# Altium schematic symbol library Microchip PIC12.SchLib: 457 symbols (part 2 of 15)
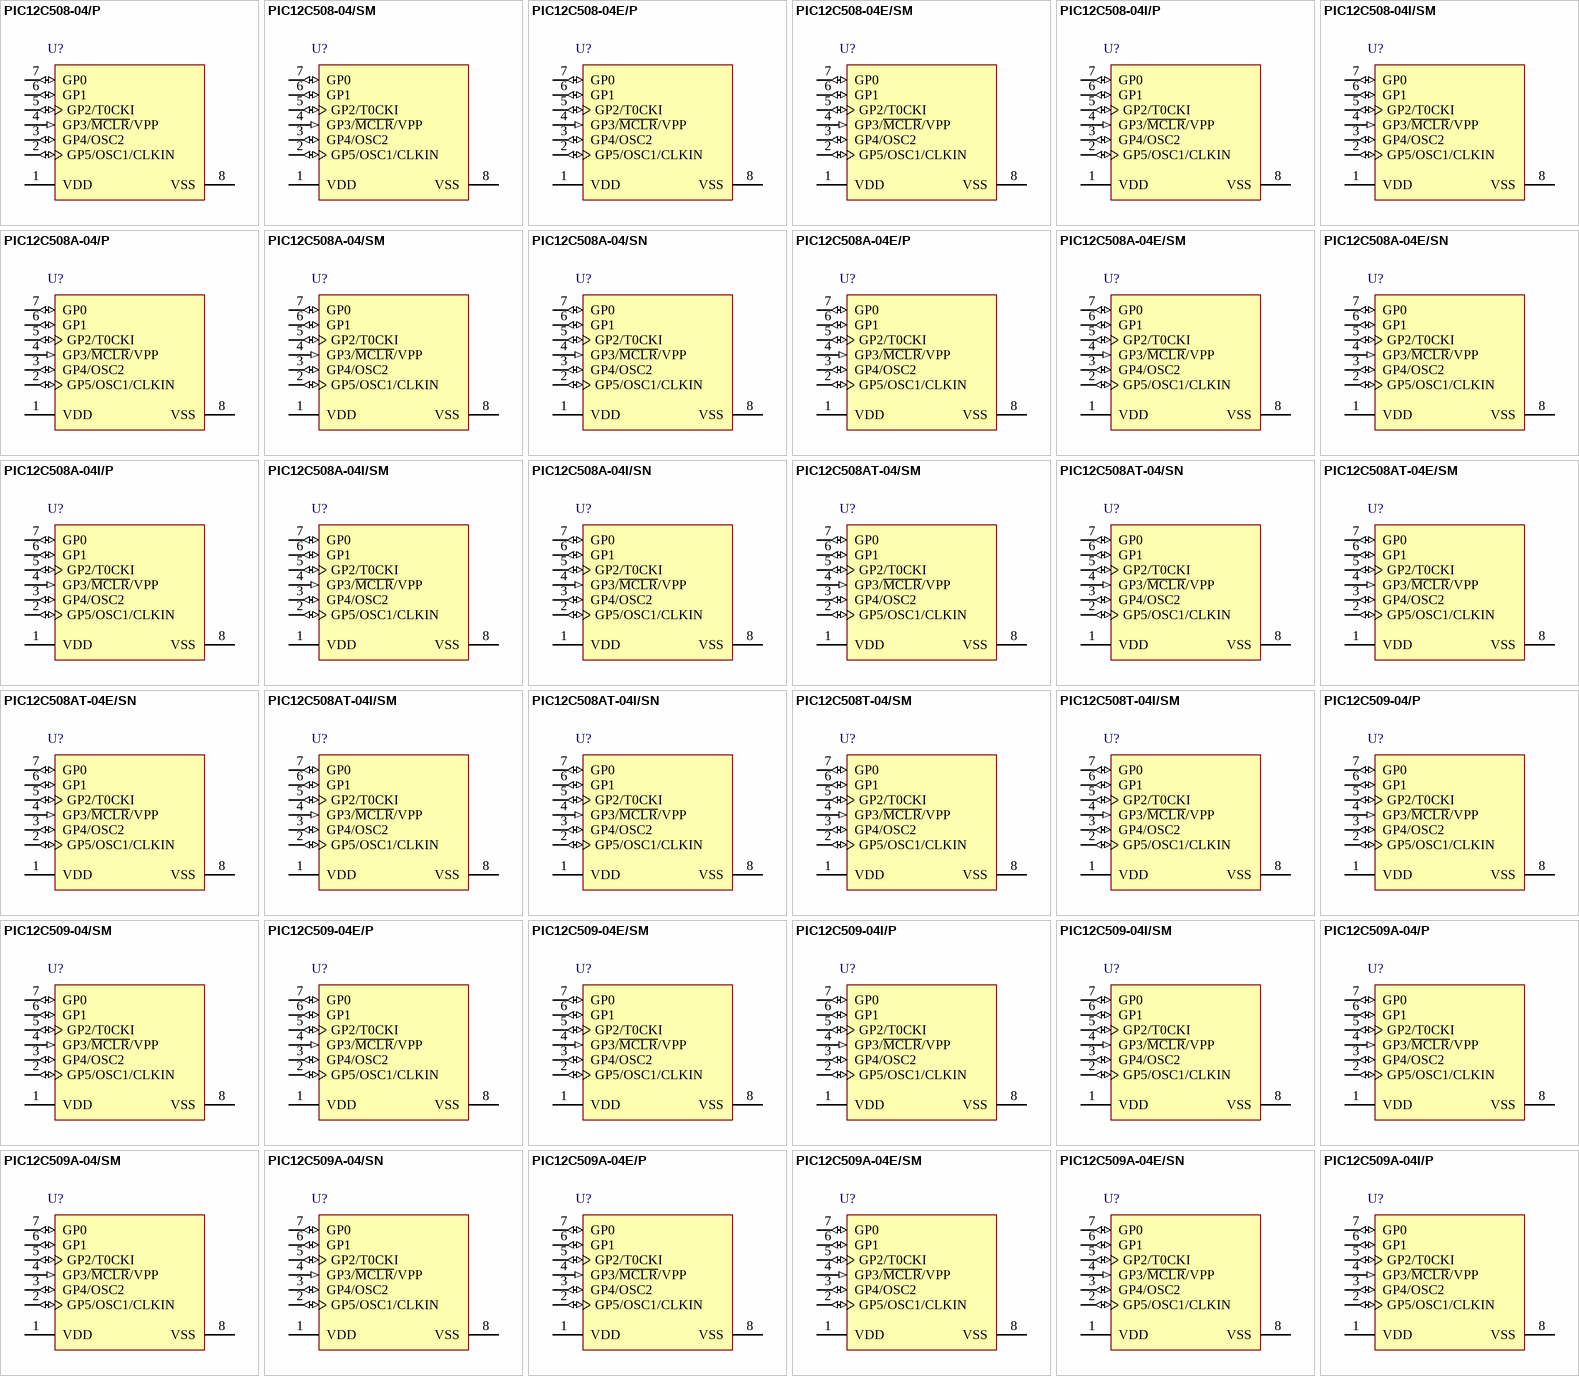
[diagram p16: symbols PIC12C508-04/P to PIC12C509A-04I/P]

## PIC12C509-04/P
designator U?
8-Bit CMOS Microcontroller, 4 MHz, 5 I/O, 0 to 70 degC, 8-pin PDIP (P8), Tube; Manufacturer: Microchip; PartNumber: PIC12C509-04/P; Digital Communication: 0 -UART, 0 -A/E/USART, 0 -SPI, 0 -I2C; I/O Pins: 5; Max. CPU Speed MHz: 4; Memory Type: OTP; Operation Voltage Range: 2.5V - 5.5V; Program Memory KBytes: 1.5; Program Memory KWords: 1; RAM: 41; Timers: 1 - 8-bit, 0 - 16-bit; DatasheetVersion: Rev. E; PackageVersion: C04-018B, 12/2012; PackageReference: PDIP-P8; PackageDescription: 8-Lead Plastic Dual In-Line, Row Spacing 7.62 mm, 9.5 x 6.6 mm Body, 2.54 mm Pitch; Supplier 1: Digi-Key; Supplier Part Number 1: PIC12C509-04/P-ND; Supplier 2: Farnell; Supplier Part Number 2: 9758810; Supplier 3: Newark; Supplier Part Number 3: 97K7146; Supplier 4: Newark; Supplier Part Number 4: 54K2820; Supplier 5: Mouser; Supplier Part Number 5: 579-PIC12C509-04/P; Packing: TUBE; RoHS: TRUE; Mounting Technology: Through Hole; ComponentLink1Description: Datasheet; ComponentLink1URL: http://ww1.microchip.com/downloads/en/DeviceDoc/40139e.pdf; ComponentLink2Description: Package Specification; ComponentLink2URL: http://www.microchip.com/stellent/groups/techpub_sg/documents/packagingspec/en012702.pdf; ComponentLink3Description: URL Link1; ComponentLink3URL: Product URL:http://www.microchip.com/datasheet/PIC12C509
footprint MCHP-PDIP-P8 (PDIP, 8-Leads, Body 9.5x6.604mm, Pitch 2.54mm)
pins: 1 VDD (power) "Positive supply for logic and I/O pins", 2 GP5/OSC1/CLKIN (io), 3 GP4/OSC2 (io), 4 GP3/~{MCLR}/VPP (in), 5 GP2/T0CKI (io), 6 GP1 (io) "Bi-directional I/O port/ serial programming clock. Can be software programmed for internal weak pull-up and wake-up from SLEEP on pin change. This buffer is a Schmitt Trigger input when used in serial programming mode.", 7 GP0 (io) "Bi-directional I/O port/ serial programming data. Can be software programmed for internal weak pull-up and wake-up from SLEEP on pin change. This buffer is a Schmitt Trigger input when used in serial programming mode.", 8 VSS (power) "Ground reference for logic and I/O pins"

## PIC12C509-04/SM
designator U?
8-Bit CMOS Microcontroller, 4 MHz, 5 I/O, 0 to 70 degC, 8-pin SOIC (SM8), Tube; Manufacturer: Microchip; PartNumber: PIC12C509-04/SM; Digital Communication: 0 -UART, 0 -A/E/USART, 0 -SPI, 0 -I2C; I/O Pins: 5; Max. CPU Speed MHz: 4; Memory Type: OTP; Operation Voltage Range: 2.5V - 5.5V; Program Memory KBytes: 1.5; Program Memory KWords: 1; RAM: 41; Timers: 1 - 8-bit, 0 - 16-bit; DatasheetVersion: Rev. E; PackageVersion: C04-056C, 12/2012; PackageReference: SOIC-SM8; PackageDescription: 8-Lead Plastic Small Outline, 5.26 x 5.25 mm Body, 1.27 mm Pitch; Supplier 1: Digi-Key; Supplier Part Number 1: PIC12C509-04/SM-ND; Supplier 2: Newark; Supplier Part Number 2: 23C2948; Supplier 3: Mouser; Supplier Part Number 3: 579-PIC12C509-04/SM; Packing: TUBE; RoHS: TRUE; Mounting Technology: Surface Mount; ComponentLink1Description: Datasheet; ComponentLink1URL: http://ww1.microchip.com/downloads/en/DeviceDoc/40139e.pdf; ComponentLink2Description: Package Specification; ComponentLink2URL: http://www.microchip.com/stellent/groups/techpub_sg/documents/packagingspec/en012702.pdf; ComponentLink3Description: URL Link1; ComponentLink3URL: Product URL:http://www.microchip.com/datasheet/PIC12C509
footprint MCHP-SOIC-SM8_N (SOIC, 8-Leads, Body 5.26x5.25mm, Pitch 1.27mm, IPC Medium Density)
footprint MCHP-SOIC-SM8_L (SOIC, 8-Leads, Body 5.26x5.25mm, Pitch 1.27mm, IPC High Density)
footprint MCHP-SOIC-SM8_M (SOIC, 8-Leads, Body 5.26x5.25mm, Pitch 1.27mm, IPC Low Density)
pins: 1 VDD (power) "Positive supply for logic and I/O pins", 2 GP5/OSC1/CLKIN (io), 3 GP4/OSC2 (io), 4 GP3/~{MCLR}/VPP (in), 5 GP2/T0CKI (io), 6 GP1 (io) "Bi-directional I/O port/ serial programming clock. Can be software programmed for internal weak pull-up and wake-up from SLEEP on pin change. This buffer is a Schmitt Trigger input when used in serial programming mode.", 7 GP0 (io) "Bi-directional I/O port/ serial programming data. Can be software programmed for internal weak pull-up and wake-up from SLEEP on pin change. This buffer is a Schmitt Trigger input when used in serial programming mode.", 8 VSS (power) "Ground reference for logic and I/O pins"

## PIC12C509-04E/P
designator U?
8-Bit CMOS Microcontroller, 4 MHz, 5 I/O, -40 to 125 degC, 8-pin PDIP (P8), Tube; Manufacturer: Microchip; PartNumber: PIC12C509-04E/P; Digital Communication: 0 -UART, 0 -A/E/USART, 0 -SPI, 0 -I2C; I/O Pins: 5; Max. CPU Speed MHz: 4; Memory Type: OTP; Operation Voltage Range: 2.5V - 5.5V; Program Memory KBytes: 1.5; Program Memory KWords: 1; RAM: 41; Timers: 1 - 8-bit, 0 - 16-bit; DatasheetVersion: Rev. E; PackageVersion: C04-018B, 12/2012; PackageReference: PDIP-P8; PackageDescription: 8-Lead Plastic Dual In-Line, Row Spacing 7.62 mm, 9.5 x 6.6 mm Body, 2.54 mm Pitch; Supplier 1: Digi-Key; Supplier Part Number 1: PIC12C509-04E/P-ND; Supplier 2: Mouser; Supplier Part Number 2: 579-PIC12C509-04E/P; Packing: TUBE; RoHS: TRUE; Mounting Technology: Through Hole; ComponentLink1Description: Datasheet; ComponentLink1URL: http://ww1.microchip.com/downloads/en/DeviceDoc/40139e.pdf; ComponentLink2Description: Package Specification; ComponentLink2URL: http://www.microchip.com/stellent/groups/techpub_sg/documents/packagingspec/en012702.pdf; ComponentLink3Description: URL Link1; ComponentLink3URL: Product URL:http://www.microchip.com/datasheet/PIC12C509
footprint MCHP-PDIP-P8 (PDIP, 8-Leads, Body 9.5x6.604mm, Pitch 2.54mm)
pins: 1 VDD (power) "Positive supply for logic and I/O pins", 2 GP5/OSC1/CLKIN (io), 3 GP4/OSC2 (io), 4 GP3/~{MCLR}/VPP (in), 5 GP2/T0CKI (io), 6 GP1 (io) "Bi-directional I/O port/ serial programming clock. Can be software programmed for internal weak pull-up and wake-up from SLEEP on pin change. This buffer is a Schmitt Trigger input when used in serial programming mode.", 7 GP0 (io) "Bi-directional I/O port/ serial programming data. Can be software programmed for internal weak pull-up and wake-up from SLEEP on pin change. This buffer is a Schmitt Trigger input when used in serial programming mode.", 8 VSS (power) "Ground reference for logic and I/O pins"

## PIC12C509-04E/SM
designator U?
8-Bit CMOS Microcontroller, 4 MHz, 5 I/O, -40 to 125 degC, 8-pin SOIC (SM8), Tube; Manufacturer: Microchip; PartNumber: PIC12C509-04E/SM; Digital Communication: 0 -UART, 0 -A/E/USART, 0 -SPI, 0 -I2C; I/O Pins: 5; Max. CPU Speed MHz: 4; Memory Type: OTP; Operation Voltage Range: 2.5V - 5.5V; Program Memory KBytes: 1.5; Program Memory KWords: 1; RAM: 41; Timers: 1 - 8-bit, 0 - 16-bit; DatasheetVersion: Rev. E; PackageVersion: C04-056C, 12/2012; PackageReference: SOIC-SM8; PackageDescription: 8-Lead Plastic Small Outline, 5.26 x 5.25 mm Body, 1.27 mm Pitch; Supplier 1: Digi-Key; Supplier Part Number 1: PIC12C509-04E/SM-ND; Supplier 2: Mouser; Supplier Part Number 2: 579-PIC12C509-04E/SM; Packing: TUBE; RoHS: TRUE; Mounting Technology: Surface Mount; ComponentLink1Description: Datasheet; ComponentLink1URL: http://ww1.microchip.com/downloads/en/DeviceDoc/40139e.pdf; ComponentLink2Description: Package Specification; ComponentLink2URL: http://www.microchip.com/stellent/groups/techpub_sg/documents/packagingspec/en012702.pdf; ComponentLink3Description: URL Link1; ComponentLink3URL: Product URL:http://www.microchip.com/datasheet/PIC12C509
footprint MCHP-SOIC-SM8_N (SOIC, 8-Leads, Body 5.26x5.25mm, Pitch 1.27mm, IPC Medium Density)
footprint MCHP-SOIC-SM8_L (SOIC, 8-Leads, Body 5.26x5.25mm, Pitch 1.27mm, IPC High Density)
footprint MCHP-SOIC-SM8_M (SOIC, 8-Leads, Body 5.26x5.25mm, Pitch 1.27mm, IPC Low Density)
pins: 1 VDD (power) "Positive supply for logic and I/O pins", 2 GP5/OSC1/CLKIN (io), 3 GP4/OSC2 (io), 4 GP3/~{MCLR}/VPP (in), 5 GP2/T0CKI (io), 6 GP1 (io) "Bi-directional I/O port/ serial programming clock. Can be software programmed for internal weak pull-up and wake-up from SLEEP on pin change. This buffer is a Schmitt Trigger input when used in serial programming mode.", 7 GP0 (io) "Bi-directional I/O port/ serial programming data. Can be software programmed for internal weak pull-up and wake-up from SLEEP on pin change. This buffer is a Schmitt Trigger input when used in serial programming mode.", 8 VSS (power) "Ground reference for logic and I/O pins"

## PIC12C509-04I/P
designator U?
8-Bit CMOS Microcontroller, 4 MHz, 5 I/O, -40 to 85 degC, 8-pin PDIP (P8), Tube; Manufacturer: Microchip; PartNumber: PIC12C509-04I/P; Digital Communication: 0 -UART, 0 -A/E/USART, 0 -SPI, 0 -I2C; I/O Pins: 5; Max. CPU Speed MHz: 4; Memory Type: OTP; Operation Voltage Range: 2.5V - 5.5V; Program Memory KBytes: 1.5; Program Memory KWords: 1; RAM: 41; Timers: 1 - 8-bit, 0 - 16-bit; DatasheetVersion: Rev. E; PackageVersion: C04-018B, 12/2012; PackageReference: PDIP-P8; PackageDescription: 8-Lead Plastic Dual In-Line, Row Spacing 7.62 mm, 9.5 x 6.6 mm Body, 2.54 mm Pitch; Supplier 1: Digi-Key; Supplier Part Number 1: PIC12C509-04I/P-ND; Supplier 2: Mouser; Supplier Part Number 2: 579-PIC12C509-04I/P; Packing: TUBE; RoHS: TRUE; Mounting Technology: Through Hole; ComponentLink1Description: Datasheet; ComponentLink1URL: http://ww1.microchip.com/downloads/en/DeviceDoc/40139e.pdf; ComponentLink2Description: Package Specification; ComponentLink2URL: http://www.microchip.com/stellent/groups/techpub_sg/documents/packagingspec/en012702.pdf; ComponentLink3Description: URL Link1; ComponentLink3URL: Product URL:http://www.microchip.com/datasheet/PIC12C509
footprint MCHP-PDIP-P8 (PDIP, 8-Leads, Body 9.5x6.604mm, Pitch 2.54mm)
pins: 1 VDD (power) "Positive supply for logic and I/O pins", 2 GP5/OSC1/CLKIN (io), 3 GP4/OSC2 (io), 4 GP3/~{MCLR}/VPP (in), 5 GP2/T0CKI (io), 6 GP1 (io) "Bi-directional I/O port/ serial programming clock. Can be software programmed for internal weak pull-up and wake-up from SLEEP on pin change. This buffer is a Schmitt Trigger input when used in serial programming mode.", 7 GP0 (io) "Bi-directional I/O port/ serial programming data. Can be software programmed for internal weak pull-up and wake-up from SLEEP on pin change. This buffer is a Schmitt Trigger input when used in serial programming mode.", 8 VSS (power) "Ground reference for logic and I/O pins"

## PIC12C509-04I/SM
designator U?
8-Bit CMOS Microcontroller, 4 MHz, 5 I/O, -40 to 85 degC, 8-pin SOIC (SM8), Tube; Manufacturer: Microchip; PartNumber: PIC12C509-04I/SM; Digital Communication: 0 -UART, 0 -A/E/USART, 0 -SPI, 0 -I2C; I/O Pins: 5; Max. CPU Speed MHz: 4; Memory Type: OTP; Operation Voltage Range: 2.5V - 5.5V; Program Memory KBytes: 1.5; Program Memory KWords: 1; RAM: 41; Timers: 1 - 8-bit, 0 - 16-bit; DatasheetVersion: Rev. E; PackageVersion: C04-056C, 12/2012; PackageReference: SOIC-SM8; PackageDescription: 8-Lead Plastic Small Outline, 5.26 x 5.25 mm Body, 1.27 mm Pitch; Supplier 1: Digi-Key; Supplier Part Number 1: PIC12C509-04I/SM-ND; Supplier 2: Newark; Supplier Part Number 2: 23C2952; Supplier 3: Mouser; Supplier Part Number 3: 579-PIC12C509-04I/SM; Packing: TUBE; RoHS: TRUE; Mounting Technology: Surface Mount; ComponentLink1Description: Datasheet; ComponentLink1URL: http://ww1.microchip.com/downloads/en/DeviceDoc/40139e.pdf; ComponentLink2Description: Package Specification; ComponentLink2URL: http://www.microchip.com/stellent/groups/techpub_sg/documents/packagingspec/en012702.pdf; ComponentLink3Description: URL Link1; ComponentLink3URL: Product URL:http://www.microchip.com/datasheet/PIC12C509
footprint MCHP-SOIC-SM8_N (SOIC, 8-Leads, Body 5.26x5.25mm, Pitch 1.27mm, IPC Medium Density)
footprint MCHP-SOIC-SM8_L (SOIC, 8-Leads, Body 5.26x5.25mm, Pitch 1.27mm, IPC High Density)
footprint MCHP-SOIC-SM8_M (SOIC, 8-Leads, Body 5.26x5.25mm, Pitch 1.27mm, IPC Low Density)
pins: 1 VDD (power) "Positive supply for logic and I/O pins", 2 GP5/OSC1/CLKIN (io), 3 GP4/OSC2 (io), 4 GP3/~{MCLR}/VPP (in), 5 GP2/T0CKI (io), 6 GP1 (io) "Bi-directional I/O port/ serial programming clock. Can be software programmed for internal weak pull-up and wake-up from SLEEP on pin change. This buffer is a Schmitt Trigger input when used in serial programming mode.", 7 GP0 (io) "Bi-directional I/O port/ serial programming data. Can be software programmed for internal weak pull-up and wake-up from SLEEP on pin change. This buffer is a Schmitt Trigger input when used in serial programming mode.", 8 VSS (power) "Ground reference for logic and I/O pins"

## PIC12C509A-04/P
designator U?
8-Bit CMOS Microcontroller, 4 MHz, 5 I/O, 0 to 70 degC, 8-pin PDIP (P8), Tube; Manufacturer: Microchip; PartNumber: PIC12C509A-04/P; Digital Communication: 0 -UART, 0 -A/E/USART, 0 -SPI, 0 -I2C; I/O Pins: 5; Max. CPU Speed MHz: 4; Memory Type: OTP; Operation Voltage Range: 3V - 5.5V; Program Memory KBytes: 1.5; Program Memory KWords: 1; RAM: 41; Timers: 1 - 8-bit, 0 - 16-bit; DatasheetVersion: Rev. E; PackageVersion: C04-018B, 12/2012; PackageReference: PDIP-P8; PackageDescription: 8-Lead Plastic Dual In-Line, Row Spacing 7.62 mm, 9.5 x 6.6 mm Body, 2.54 mm Pitch; Supplier 1: Digi-Key; Supplier Part Number 1: PIC12C509A-04/P-ND; Supplier 2: Farnell; Supplier Part Number 2: 9758828; Supplier 3: Newark; Supplier Part Number 3: 69K7622; Supplier 4: Mouser; Supplier Part Number 4: 579-PIC12C509A-04/P; Packing: TUBE; RoHS: TRUE; Mounting Technology: Through Hole; ComponentLink1Description: Datasheet; ComponentLink1URL: http://ww1.microchip.com/downloads/en/DeviceDoc/40139e.pdf; ComponentLink2Description: Package Specification; ComponentLink2URL: http://www.microchip.com/stellent/groups/techpub_sg/documents/packagingspec/en012702.pdf; ComponentLink3Description: URL Link1; ComponentLink3URL: Product URL:http://www.microchip.com/datasheet/PIC12C509A
footprint MCHP-PDIP-P8 (PDIP, 8-Leads, Body 9.5x6.604mm, Pitch 2.54mm)
pins: 1 VDD (power) "Positive supply for logic and I/O pins", 2 GP5/OSC1/CLKIN (io), 3 GP4/OSC2 (io), 4 GP3/~{MCLR}/VPP (in), 5 GP2/T0CKI (io), 6 GP1 (io) "Bi-directional I/O port/ serial programming clock. Can be software programmed for internal weak pull-up and wake-up from SLEEP on pin change. This buffer is a Schmitt Trigger input when used in serial programming mode.", 7 GP0 (io) "Bi-directional I/O port/ serial programming data. Can be software programmed for internal weak pull-up and wake-up from SLEEP on pin change. This buffer is a Schmitt Trigger input when used in serial programming mode.", 8 VSS (power) "Ground reference for logic and I/O pins"

## PIC12C509A-04/SM
designator U?
8-Bit CMOS Microcontroller, 4 MHz, 5 I/O, 0 to 70 degC, 8-pin SOIC (SM8), Tube; Manufacturer: Microchip; PartNumber: PIC12C509A-04/SM; Digital Communication: 0 -UART, 0 -A/E/USART, 0 -SPI, 0 -I2C; I/O Pins: 5; Max. CPU Speed MHz: 4; Memory Type: OTP; Operation Voltage Range: 3V - 5.5V; Program Memory KBytes: 1.5; Program Memory KWords: 1; RAM: 41; Timers: 1 - 8-bit, 0 - 16-bit; DatasheetVersion: Rev. E; PackageVersion: C04-056C, 12/2012; PackageReference: SOIC-SM8; PackageDescription: 8-Lead Plastic Small Outline, 5.26 x 5.25 mm Body, 1.27 mm Pitch; Supplier 1: Digi-Key; Supplier Part Number 1: PIC12C509A-04/SM-ND; Supplier 2: Farnell; Supplier Part Number 2: 9758836; Supplier 3: Newark; Supplier Part Number 3: 97K7148; Supplier 4: Newark; Supplier Part Number 4: 96K3766; Supplier 5: Mouser; Supplier Part Number 5: 579-PIC12C509A-04/SM; Packing: TUBE; RoHS: TRUE; Mounting Technology: Surface Mount; ComponentLink1Description: Datasheet; ComponentLink1URL: http://ww1.microchip.com/downloads/en/DeviceDoc/40139e.pdf; ComponentLink2Description: Package Specification; ComponentLink2URL: http://www.microchip.com/stellent/groups/techpub_sg/documents/packagingspec/en012702.pdf; ComponentLink3Description: URL Link1; ComponentLink3URL: Product URL:http://www.microchip.com/datasheet/PIC12C509A
footprint MCHP-SOIC-SM8_N (SOIC, 8-Leads, Body 5.26x5.25mm, Pitch 1.27mm, IPC Medium Density)
footprint MCHP-SOIC-SM8_L (SOIC, 8-Leads, Body 5.26x5.25mm, Pitch 1.27mm, IPC High Density)
footprint MCHP-SOIC-SM8_M (SOIC, 8-Leads, Body 5.26x5.25mm, Pitch 1.27mm, IPC Low Density)
pins: 1 VDD (power) "Positive supply for logic and I/O pins", 2 GP5/OSC1/CLKIN (io), 3 GP4/OSC2 (io), 4 GP3/~{MCLR}/VPP (in), 5 GP2/T0CKI (io), 6 GP1 (io) "Bi-directional I/O port/ serial programming clock. Can be software programmed for internal weak pull-up and wake-up from SLEEP on pin change. This buffer is a Schmitt Trigger input when used in serial programming mode.", 7 GP0 (io) "Bi-directional I/O port/ serial programming data. Can be software programmed for internal weak pull-up and wake-up from SLEEP on pin change. This buffer is a Schmitt Trigger input when used in serial programming mode.", 8 VSS (power) "Ground reference for logic and I/O pins"

## PIC12C509A-04/SN
designator U?
8-Bit CMOS Microcontroller, 4 MHz, 5 I/O, 0 to 70 degC, 8-pin SOIC (SN8), Tube; Manufacturer: Microchip; PartNumber: PIC12C509A-04/SN; Digital Communication: 0 -UART, 0 -A/E/USART, 0 -SPI, 0 -I2C; I/O Pins: 5; Max. CPU Speed MHz: 4; Memory Type: OTP; Operation Voltage Range: 3V - 5.5V; Program Memory KBytes: 1.5; Program Memory KWords: 1; RAM: 41; Timers: 1 - 8-bit, 0 - 16-bit; DatasheetVersion: Rev. E; PackageVersion: C04-057C, 12/2012; PackageReference: SOIC-SN8; PackageDescription: 8-Lead Plastic Small Outline, 4.9 x 3.9 mm Body, 1.27 mm Pitch; Supplier 1: Digi-Key; Supplier Part Number 1: PIC12C509A-04/SN-ND; Supplier 2: Farnell; Supplier Part Number 2: 9758844; Supplier 3: Newark; Supplier Part Number 3: 97K7149; Supplier 4: Newark; Supplier Part Number 4: 23C2954; Supplier 5: Mouser; Supplier Part Number 5: 579-PIC12C509A04SN; Packing: TUBE; RoHS: TRUE; Mounting Technology: Surface Mount; ComponentLink1Description: Datasheet; ComponentLink1URL: http://ww1.microchip.com/downloads/en/DeviceDoc/40139e.pdf; ComponentLink2Description: Package Specification; ComponentLink2URL: http://www.microchip.com/stellent/groups/techpub_sg/documents/packagingspec/en012702.pdf; ComponentLink3Description: URL Link1; ComponentLink3URL: Product URL:http://www.microchip.com/datasheet/PIC12C509A
footprint MCHP-SOIC-SN8_N (SOIC, 8-Leads, Body 4.9x3.9mm, Pitch 1.27mm, IPC Medium Density)
footprint MCHP-SOIC-SN8_L (SOIC, 8-Leads, Body 4.9x3.9mm, Pitch 1.27mm, IPC High Density)
footprint MCHP-SOIC-SN8_M (SOIC, 8-Leads, Body 4.9x3.9mm, Pitch 1.27mm, IPC Low Density)
pins: 1 VDD (power) "Positive supply for logic and I/O pins", 2 GP5/OSC1/CLKIN (io), 3 GP4/OSC2 (io), 4 GP3/~{MCLR}/VPP (in), 5 GP2/T0CKI (io), 6 GP1 (io) "Bi-directional I/O port/ serial programming clock. Can be software programmed for internal weak pull-up and wake-up from SLEEP on pin change. This buffer is a Schmitt Trigger input when used in serial programming mode.", 7 GP0 (io) "Bi-directional I/O port/ serial programming data. Can be software programmed for internal weak pull-up and wake-up from SLEEP on pin change. This buffer is a Schmitt Trigger input when used in serial programming mode.", 8 VSS (power) "Ground reference for logic and I/O pins"

## PIC12C509A-04E/P
designator U?
8-Bit CMOS Microcontroller, 4 MHz, 5 I/O, -40 to 125 degC, 8-pin PDIP (P8), Tube; Manufacturer: Microchip; PartNumber: PIC12C509A-04E/P; Digital Communication: 0 -UART, 0 -A/E/USART, 0 -SPI, 0 -I2C; I/O Pins: 5; Max. CPU Speed MHz: 4; Memory Type: OTP; Operation Voltage Range: 3V - 5.5V; Program Memory KBytes: 1.5; Program Memory KWords: 1; RAM: 41; Timers: 1 - 8-bit, 0 - 16-bit; DatasheetVersion: Rev. E; PackageVersion: C04-018B, 12/2012; PackageReference: PDIP-P8; PackageDescription: 8-Lead Plastic Dual In-Line, Row Spacing 7.62 mm, 9.5 x 6.6 mm Body, 2.54 mm Pitch; Supplier 1: Digi-Key; Supplier Part Number 1: PIC12C509A-04E/P-ND; Supplier 2: Mouser; Supplier Part Number 2: 579-PIC12C509A-04E/P; Packing: TUBE; RoHS: TRUE; Mounting Technology: Through Hole; ComponentLink1Description: Datasheet; ComponentLink1URL: http://ww1.microchip.com/downloads/en/DeviceDoc/40139e.pdf; ComponentLink2Description: Package Specification; ComponentLink2URL: http://www.microchip.com/stellent/groups/techpub_sg/documents/packagingspec/en012702.pdf; ComponentLink3Description: URL Link1; ComponentLink3URL: Product URL:http://www.microchip.com/datasheet/PIC12C509A
footprint MCHP-PDIP-P8 (PDIP, 8-Leads, Body 9.5x6.604mm, Pitch 2.54mm)
pins: 1 VDD (power) "Positive supply for logic and I/O pins", 2 GP5/OSC1/CLKIN (io), 3 GP4/OSC2 (io), 4 GP3/~{MCLR}/VPP (in), 5 GP2/T0CKI (io), 6 GP1 (io) "Bi-directional I/O port/ serial programming clock. Can be software programmed for internal weak pull-up and wake-up from SLEEP on pin change. This buffer is a Schmitt Trigger input when used in serial programming mode.", 7 GP0 (io) "Bi-directional I/O port/ serial programming data. Can be software programmed for internal weak pull-up and wake-up from SLEEP on pin change. This buffer is a Schmitt Trigger input when used in serial programming mode.", 8 VSS (power) "Ground reference for logic and I/O pins"

## PIC12C509A-04E/SM
designator U?
8-Bit CMOS Microcontroller, 4 MHz, 5 I/O, -40 to 125 degC, 8-pin SOIC (SM8), Tube; Manufacturer: Microchip; PartNumber: PIC12C509A-04E/SM; Digital Communication: 0 -UART, 0 -A/E/USART, 0 -SPI, 0 -I2C; I/O Pins: 5; Max. CPU Speed MHz: 4; Memory Type: OTP; Operation Voltage Range: 3V - 5.5V; Program Memory KBytes: 1.5; Program Memory KWords: 1; RAM: 41; Timers: 1 - 8-bit, 0 - 16-bit; DatasheetVersion: Rev. E; PackageVersion: C04-056C, 12/2012; PackageReference: SOIC-SM8; PackageDescription: 8-Lead Plastic Small Outline, 5.26 x 5.25 mm Body, 1.27 mm Pitch; Supplier 1: Digi-Key; Supplier Part Number 1: PIC12C509A-04E/SM-ND; Supplier 2: Mouser; Supplier Part Number 2: 579-12C509A-04E/SM; Packing: TUBE; RoHS: TRUE; Mounting Technology: Surface Mount; ComponentLink1Description: Datasheet; ComponentLink1URL: http://ww1.microchip.com/downloads/en/DeviceDoc/40139e.pdf; ComponentLink2Description: Package Specification; ComponentLink2URL: http://www.microchip.com/stellent/groups/techpub_sg/documents/packagingspec/en012702.pdf; ComponentLink3Description: URL Link1; ComponentLink3URL: Product URL:http://www.microchip.com/datasheet/PIC12C509A
footprint MCHP-SOIC-SM8_N (SOIC, 8-Leads, Body 5.26x5.25mm, Pitch 1.27mm, IPC Medium Density)
footprint MCHP-SOIC-SM8_L (SOIC, 8-Leads, Body 5.26x5.25mm, Pitch 1.27mm, IPC High Density)
footprint MCHP-SOIC-SM8_M (SOIC, 8-Leads, Body 5.26x5.25mm, Pitch 1.27mm, IPC Low Density)
pins: 1 VDD (power) "Positive supply for logic and I/O pins", 2 GP5/OSC1/CLKIN (io), 3 GP4/OSC2 (io), 4 GP3/~{MCLR}/VPP (in), 5 GP2/T0CKI (io), 6 GP1 (io) "Bi-directional I/O port/ serial programming clock. Can be software programmed for internal weak pull-up and wake-up from SLEEP on pin change. This buffer is a Schmitt Trigger input when used in serial programming mode.", 7 GP0 (io) "Bi-directional I/O port/ serial programming data. Can be software programmed for internal weak pull-up and wake-up from SLEEP on pin change. This buffer is a Schmitt Trigger input when used in serial programming mode.", 8 VSS (power) "Ground reference for logic and I/O pins"

## PIC12C509A-04E/SN
designator U?
8-Bit CMOS Microcontroller, 4 MHz, 5 I/O, -40 to 125 degC, 8-pin SOIC (SN8), Tube; Manufacturer: Microchip; PartNumber: PIC12C509A-04E/SN; Digital Communication: 0 -UART, 0 -A/E/USART, 0 -SPI, 0 -I2C; I/O Pins: 5; Max. CPU Speed MHz: 4; Memory Type: OTP; Operation Voltage Range: 3V - 5.5V; Program Memory KBytes: 1.5; Program Memory KWords: 1; RAM: 41; Timers: 1 - 8-bit, 0 - 16-bit; DatasheetVersion: Rev. E; PackageVersion: C04-057C, 12/2012; PackageReference: SOIC-SN8; PackageDescription: 8-Lead Plastic Small Outline, 4.9 x 3.9 mm Body, 1.27 mm Pitch; Supplier 1: Digi-Key; Supplier Part Number 1: PIC12C509A-04E/SN-ND; Supplier 2: Newark; Supplier Part Number 2: 23C2957; Supplier 3: Mouser; Supplier Part Number 3: 579-12C509A-04E/SN; Packing: TUBE; RoHS: TRUE; Mounting Technology: Surface Mount; ComponentLink1Description: Datasheet; ComponentLink1URL: http://ww1.microchip.com/downloads/en/DeviceDoc/40139e.pdf; ComponentLink2Description: Package Specification; ComponentLink2URL: http://www.microchip.com/stellent/groups/techpub_sg/documents/packagingspec/en012702.pdf; ComponentLink3Description: URL Link1; ComponentLink3URL: Product URL:http://www.microchip.com/datasheet/PIC12C509A
footprint MCHP-SOIC-SN8_N (SOIC, 8-Leads, Body 4.9x3.9mm, Pitch 1.27mm, IPC Medium Density)
footprint MCHP-SOIC-SN8_L (SOIC, 8-Leads, Body 4.9x3.9mm, Pitch 1.27mm, IPC High Density)
footprint MCHP-SOIC-SN8_M (SOIC, 8-Leads, Body 4.9x3.9mm, Pitch 1.27mm, IPC Low Density)
pins: 1 VDD (power) "Positive supply for logic and I/O pins", 2 GP5/OSC1/CLKIN (io), 3 GP4/OSC2 (io), 4 GP3/~{MCLR}/VPP (in), 5 GP2/T0CKI (io), 6 GP1 (io) "Bi-directional I/O port/ serial programming clock. Can be software programmed for internal weak pull-up and wake-up from SLEEP on pin change. This buffer is a Schmitt Trigger input when used in serial programming mode.", 7 GP0 (io) "Bi-directional I/O port/ serial programming data. Can be software programmed for internal weak pull-up and wake-up from SLEEP on pin change. This buffer is a Schmitt Trigger input when used in serial programming mode.", 8 VSS (power) "Ground reference for logic and I/O pins"

## PIC12C509A-04I/P
designator U?
8-Bit CMOS Microcontroller, 4 MHz, 5 I/O, -40 to 85 degC, 8-pin PDIP (P8), Tube; Manufacturer: Microchip; PartNumber: PIC12C509A-04I/P; Digital Communication: 0 -UART, 0 -A/E/USART, 0 -SPI, 0 -I2C; I/O Pins: 5; Max. CPU Speed MHz: 4; Memory Type: OTP; Operation Voltage Range: 3V - 5.5V; Program Memory KBytes: 1.5; Program Memory KWords: 1; RAM: 41; Timers: 1 - 8-bit, 0 - 16-bit; DatasheetVersion: Rev. E; PackageVersion: C04-018B, 12/2012; PackageReference: PDIP-P8; PackageDescription: 8-Lead Plastic Dual In-Line, Row Spacing 7.62 mm, 9.5 x 6.6 mm Body, 2.54 mm Pitch; Supplier 1: Digi-Key; Supplier Part Number 1: PIC12C509A-04I/P-ND; Supplier 2: Farnell; Supplier Part Number 2: 1084235; Supplier 3: Newark; Supplier Part Number 3: 23C2958; Supplier 4: Mouser; Supplier Part Number 4: 579-PIC12C509A04IP; Packing: TUBE; RoHS: TRUE; Mounting Technology: Through Hole; ComponentLink1Description: Datasheet; ComponentLink1URL: http://ww1.microchip.com/downloads/en/DeviceDoc/40139e.pdf; ComponentLink2Description: Package Specification; ComponentLink2URL: http://www.microchip.com/stellent/groups/techpub_sg/documents/packagingspec/en012702.pdf; ComponentLink3Description: URL Link1; ComponentLink3URL: Product URL:http://www.microchip.com/datasheet/PIC12C509A
footprint MCHP-PDIP-P8 (PDIP, 8-Leads, Body 9.5x6.604mm, Pitch 2.54mm)
pins: 1 VDD (power) "Positive supply for logic and I/O pins", 2 GP5/OSC1/CLKIN (io), 3 GP4/OSC2 (io), 4 GP3/~{MCLR}/VPP (in), 5 GP2/T0CKI (io), 6 GP1 (io) "Bi-directional I/O port/ serial programming clock. Can be software programmed for internal weak pull-up and wake-up from SLEEP on pin change. This buffer is a Schmitt Trigger input when used in serial programming mode.", 7 GP0 (io) "Bi-directional I/O port/ serial programming data. Can be software programmed for internal weak pull-up and wake-up from SLEEP on pin change. This buffer is a Schmitt Trigger input when used in serial programming mode.", 8 VSS (power) "Ground reference for logic and I/O pins"

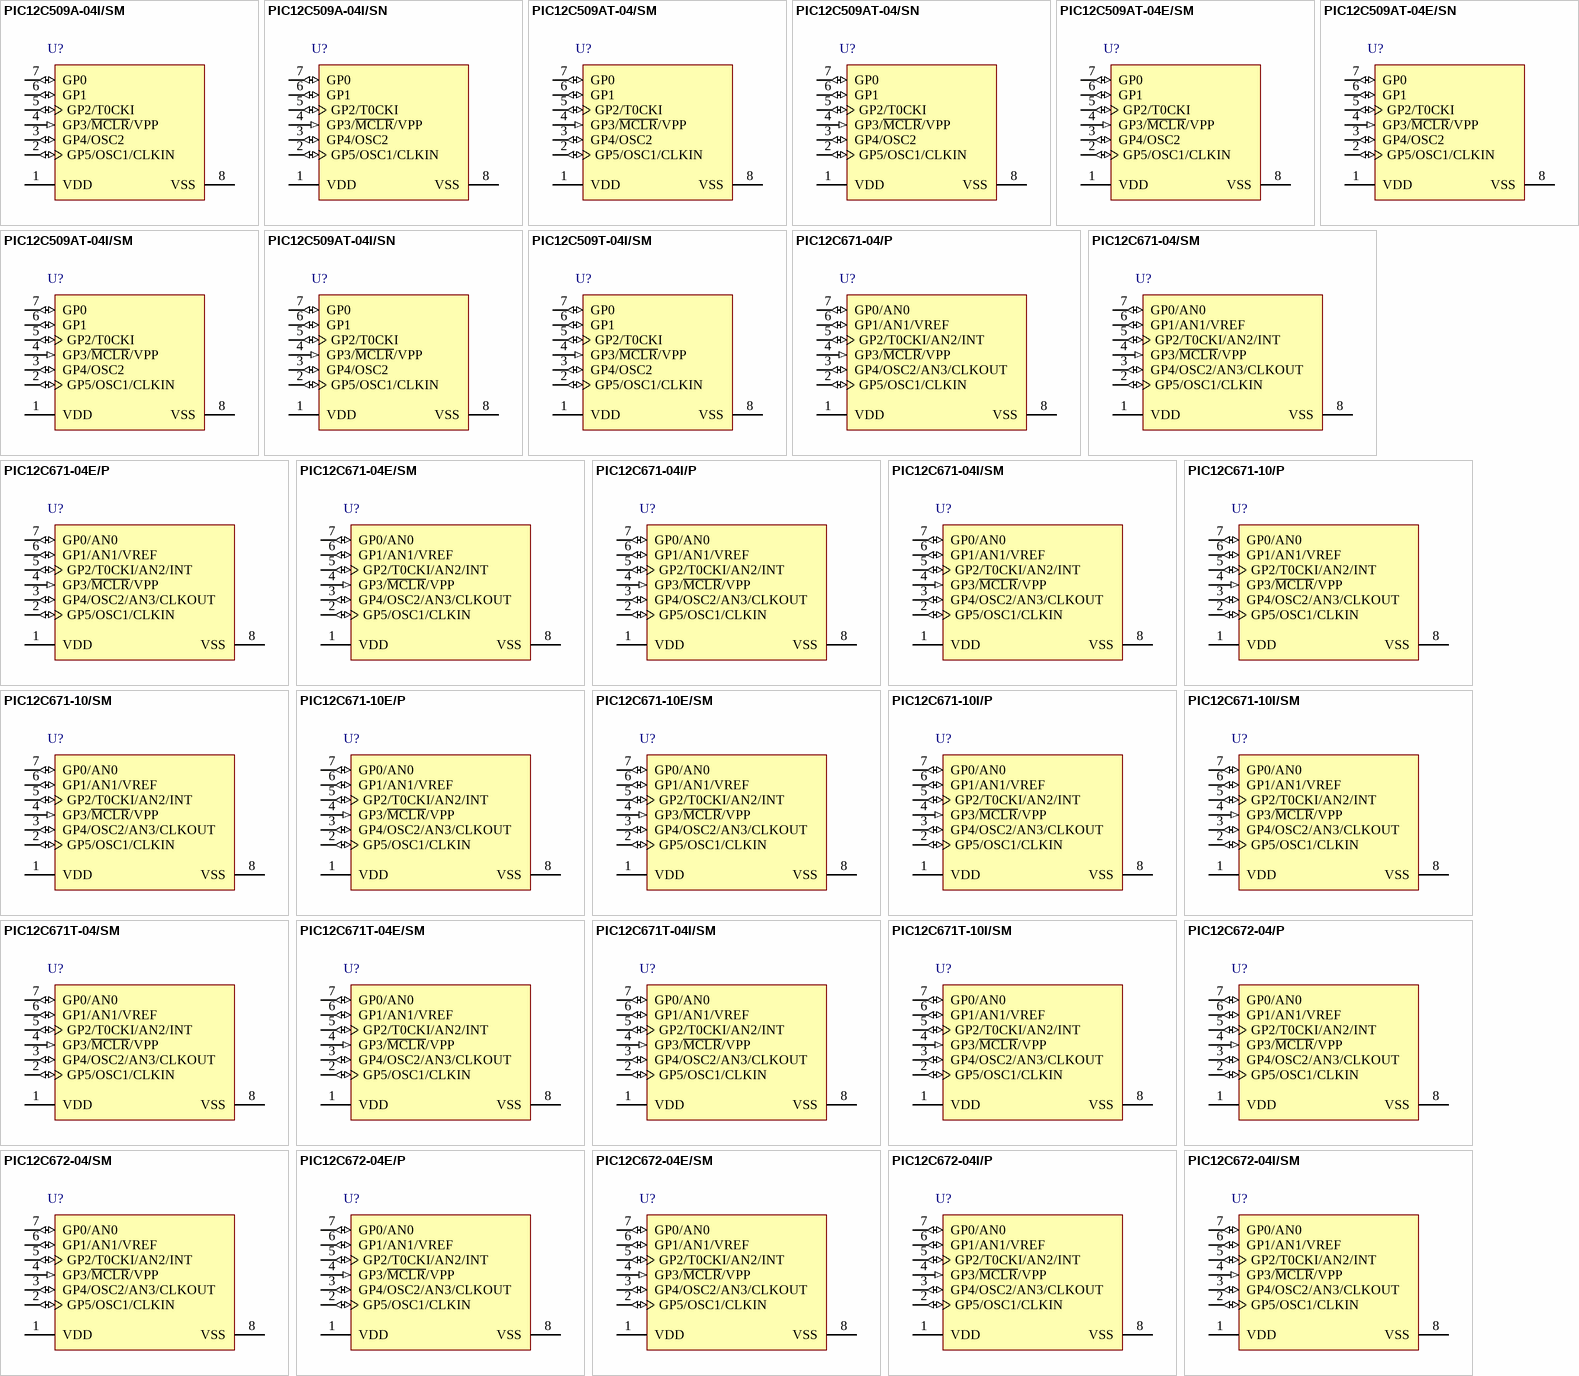
[diagram p1: symbols PIC12C509A-04I/SM to PIC12C672-04I/SM]

## PIC12C509A-04I/SM
designator U?
8-Bit CMOS Microcontroller, 4 MHz, 5 I/O, -40 to 85 degC, 8-pin SOIC (SM8), Tube; Manufacturer: Microchip; PartNumber: PIC12C509A-04I/SM; Digital Communication: 0 -UART, 0 -A/E/USART, 0 -SPI, 0 -I2C; I/O Pins: 5; Max. CPU Speed MHz: 4; Memory Type: OTP; Operation Voltage Range: 3V - 5.5V; Program Memory KBytes: 1.5; Program Memory KWords: 1; RAM: 41; Timers: 1 - 8-bit, 0 - 16-bit; DatasheetVersion: Rev. E; PackageVersion: C04-056C, 12/2012; PackageReference: SOIC-SM8; PackageDescription: 8-Lead Plastic Small Outline, 5.26 x 5.25 mm Body, 1.27 mm Pitch; Supplier 1: Digi-Key; Supplier Part Number 1: PIC12C509A-04I/SM-ND; Supplier 2: Newark; Supplier Part Number 2: 65K1035; Supplier 3: Mouser; Supplier Part Number 3: 579-PIC12C509A04ISM; Packing: TUBE; RoHS: TRUE; Mounting Technology: Surface Mount; ComponentLink1Description: Datasheet; ComponentLink1URL: http://ww1.microchip.com/downloads/en/DeviceDoc/40139e.pdf; ComponentLink2Description: Package Specification; ComponentLink2URL: http://www.microchip.com/stellent/groups/techpub_sg/documents/packagingspec/en012702.pdf; ComponentLink3Description: URL Link1; ComponentLink3URL: Product URL:http://www.microchip.com/datasheet/PIC12C509A
footprint MCHP-SOIC-SM8_N (SOIC, 8-Leads, Body 5.26x5.25mm, Pitch 1.27mm, IPC Medium Density)
footprint MCHP-SOIC-SM8_L (SOIC, 8-Leads, Body 5.26x5.25mm, Pitch 1.27mm, IPC High Density)
footprint MCHP-SOIC-SM8_M (SOIC, 8-Leads, Body 5.26x5.25mm, Pitch 1.27mm, IPC Low Density)
pins: 1 VDD (power) "Positive supply for logic and I/O pins", 2 GP5/OSC1/CLKIN (io), 3 GP4/OSC2 (io), 4 GP3/~{MCLR}/VPP (in), 5 GP2/T0CKI (io), 6 GP1 (io) "Bi-directional I/O port/ serial programming clock. Can be software programmed for internal weak pull-up and wake-up from SLEEP on pin change. This buffer is a Schmitt Trigger input when used in serial programming mode.", 7 GP0 (io) "Bi-directional I/O port/ serial programming data. Can be software programmed for internal weak pull-up and wake-up from SLEEP on pin change. This buffer is a Schmitt Trigger input when used in serial programming mode.", 8 VSS (power) "Ground reference for logic and I/O pins"

## PIC12C509A-04I/SN
designator U?
8-Bit CMOS Microcontroller, 4 MHz, 5 I/O, -40 to 85 degC, 8-pin SOIC (SN8), Tube; Manufacturer: Microchip; PartNumber: PIC12C509A-04I/SN; Digital Communication: 0 -UART, 0 -A/E/USART, 0 -SPI, 0 -I2C; I/O Pins: 5; Max. CPU Speed MHz: 4; Memory Type: OTP; Operation Voltage Range: 3V - 5.5V; Program Memory KBytes: 1.5; Program Memory KWords: 1; RAM: 41; Timers: 1 - 8-bit, 0 - 16-bit; DatasheetVersion: Rev. E; PackageVersion: C04-057C, 12/2012; PackageReference: SOIC-SN8; PackageDescription: 8-Lead Plastic Small Outline, 4.9 x 3.9 mm Body, 1.27 mm Pitch; Supplier 1: Digi-Key; Supplier Part Number 1: PIC12C509A-04I/SN-ND; Supplier 2: Farnell; Supplier Part Number 2: 1084259; Supplier 3: Newark; Supplier Part Number 3: 23C2960; Supplier 4: Mouser; Supplier Part Number 4: 579-PIC12C509A04ISN; Packing: TUBE; RoHS: TRUE; Mounting Technology: Surface Mount; ComponentLink1Description: Datasheet; ComponentLink1URL: http://ww1.microchip.com/downloads/en/DeviceDoc/40139e.pdf; ComponentLink2Description: Package Specification; ComponentLink2URL: http://www.microchip.com/stellent/groups/techpub_sg/documents/packagingspec/en012702.pdf; ComponentLink3Description: URL Link1; ComponentLink3URL: Product URL:http://www.microchip.com/datasheet/PIC12C509A
footprint MCHP-SOIC-SN8_N (SOIC, 8-Leads, Body 4.9x3.9mm, Pitch 1.27mm, IPC Medium Density)
footprint MCHP-SOIC-SN8_L (SOIC, 8-Leads, Body 4.9x3.9mm, Pitch 1.27mm, IPC High Density)
footprint MCHP-SOIC-SN8_M (SOIC, 8-Leads, Body 4.9x3.9mm, Pitch 1.27mm, IPC Low Density)
pins: 1 VDD (power) "Positive supply for logic and I/O pins", 2 GP5/OSC1/CLKIN (io), 3 GP4/OSC2 (io), 4 GP3/~{MCLR}/VPP (in), 5 GP2/T0CKI (io), 6 GP1 (io) "Bi-directional I/O port/ serial programming clock. Can be software programmed for internal weak pull-up and wake-up from SLEEP on pin change. This buffer is a Schmitt Trigger input when used in serial programming mode.", 7 GP0 (io) "Bi-directional I/O port/ serial programming data. Can be software programmed for internal weak pull-up and wake-up from SLEEP on pin change. This buffer is a Schmitt Trigger input when used in serial programming mode.", 8 VSS (power) "Ground reference for logic and I/O pins"

## PIC12C509AT-04/SM
designator U?
8-Bit CMOS Microcontroller, 4 MHz, 5 I/O, 0 to 70 degC, 8-pin SOIC (SM8), Tape and Reel; Manufacturer: Microchip; PartNumber: PIC12C509AT-04/SM; Digital Communication: 0 -UART, 0 -A/E/USART, 0 -SPI, 0 -I2C; I/O Pins: 5; Max. CPU Speed MHz: 4; Memory Type: OTP; Operation Voltage Range: 3V - 5.5V; Packing: T/R; Program Memory KBytes: 1.5; Program Memory KWords: 1; RAM: 41; Timers: 1 - 8-bit, 0 - 16-bit; DatasheetVersion: Rev. E; PackageVersion: C04-056C, 12/2012; PackageReference: SOIC-SM8; PackageDescription: 8-Lead Plastic Small Outline, 5.26 x 5.25 mm Body, 1.27 mm Pitch; Supplier 1: Digi-Key; Supplier Part Number 1: PIC12C509AT-04/SM-ND; Supplier 2: Mouser; Supplier Part Number 2: 579-12C509AT-04/SM; RoHS: TRUE; Mounting Technology: Surface Mount; ComponentLink1Description: Datasheet; ComponentLink1URL: http://ww1.microchip.com/downloads/en/DeviceDoc/40139e.pdf; ComponentLink2Description: Package Specification; ComponentLink2URL: http://www.microchip.com/stellent/groups/techpub_sg/documents/packagingspec/en012702.pdf; ComponentLink3Description: URL Link1; ComponentLink3URL: Product URL:http://www.microchip.com/datasheet/PIC12C509A
footprint MCHP-SOIC-SM8_N (SOIC, 8-Leads, Body 5.26x5.25mm, Pitch 1.27mm, IPC Medium Density)
footprint MCHP-SOIC-SM8_L (SOIC, 8-Leads, Body 5.26x5.25mm, Pitch 1.27mm, IPC High Density)
footprint MCHP-SOIC-SM8_M (SOIC, 8-Leads, Body 5.26x5.25mm, Pitch 1.27mm, IPC Low Density)
pins: 1 VDD (power) "Positive supply for logic and I/O pins", 2 GP5/OSC1/CLKIN (io), 3 GP4/OSC2 (io), 4 GP3/~{MCLR}/VPP (in), 5 GP2/T0CKI (io), 6 GP1 (io) "Bi-directional I/O port/ serial programming clock. Can be software programmed for internal weak pull-up and wake-up from SLEEP on pin change. This buffer is a Schmitt Trigger input when used in serial programming mode.", 7 GP0 (io) "Bi-directional I/O port/ serial programming data. Can be software programmed for internal weak pull-up and wake-up from SLEEP on pin change. This buffer is a Schmitt Trigger input when used in serial programming mode.", 8 VSS (power) "Ground reference for logic and I/O pins"

## PIC12C509AT-04/SN
designator U?
8-Bit CMOS Microcontroller, 4 MHz, 5 I/O, 0 to 70 degC, 8-pin SOIC (SN8), Tape and Reel; Manufacturer: Microchip; PartNumber: PIC12C509AT-04/SN; Digital Communication: 0 -UART, 0 -A/E/USART, 0 -SPI, 0 -I2C; I/O Pins: 5; Max. CPU Speed MHz: 4; Memory Type: OTP; Operation Voltage Range: 3V - 5.5V; Packing: T/R; Program Memory KBytes: 1.5; Program Memory KWords: 1; RAM: 41; Timers: 1 - 8-bit, 0 - 16-bit; DatasheetVersion: Rev. E; PackageVersion: C04-057C, 12/2012; PackageReference: SOIC-SN8; PackageDescription: 8-Lead Plastic Small Outline, 4.9 x 3.9 mm Body, 1.27 mm Pitch; Supplier 1: Digi-Key; Supplier Part Number 1: PIC12C509AT-04/SN-ND; Supplier 2: Mouser; Supplier Part Number 2: 579-12C509AT-04/SN; RoHS: TRUE; Mounting Technology: Surface Mount; ComponentLink1Description: Datasheet; ComponentLink1URL: http://ww1.microchip.com/downloads/en/DeviceDoc/40139e.pdf; ComponentLink2Description: Package Specification; ComponentLink2URL: http://www.microchip.com/stellent/groups/techpub_sg/documents/packagingspec/en012702.pdf; ComponentLink3Description: URL Link1; ComponentLink3URL: Product URL:http://www.microchip.com/datasheet/PIC12C509A
footprint MCHP-SOIC-SN8_N (SOIC, 8-Leads, Body 4.9x3.9mm, Pitch 1.27mm, IPC Medium Density)
footprint MCHP-SOIC-SN8_L (SOIC, 8-Leads, Body 4.9x3.9mm, Pitch 1.27mm, IPC High Density)
footprint MCHP-SOIC-SN8_M (SOIC, 8-Leads, Body 4.9x3.9mm, Pitch 1.27mm, IPC Low Density)
pins: 1 VDD (power) "Positive supply for logic and I/O pins", 2 GP5/OSC1/CLKIN (io), 3 GP4/OSC2 (io), 4 GP3/~{MCLR}/VPP (in), 5 GP2/T0CKI (io), 6 GP1 (io) "Bi-directional I/O port/ serial programming clock. Can be software programmed for internal weak pull-up and wake-up from SLEEP on pin change. This buffer is a Schmitt Trigger input when used in serial programming mode.", 7 GP0 (io) "Bi-directional I/O port/ serial programming data. Can be software programmed for internal weak pull-up and wake-up from SLEEP on pin change. This buffer is a Schmitt Trigger input when used in serial programming mode.", 8 VSS (power) "Ground reference for logic and I/O pins"

## PIC12C509AT-04E/SM
designator U?
8-Bit CMOS Microcontroller, 4 MHz, 5 I/O, -40 to 125 degC, 8-pin SOIC (SM8), Tape and Reel; Manufacturer: Microchip; PartNumber: PIC12C509AT-04E/SM; Digital Communication: 0 -UART, 0 -A/E/USART, 0 -SPI, 0 -I2C; I/O Pins: 5; Max. CPU Speed MHz: 4; Memory Type: OTP; Operation Voltage Range: 3V - 5.5V; Packing: T/R; Program Memory KBytes: 1.5; Program Memory KWords: 1; RAM: 41; Timers: 1 - 8-bit, 0 - 16-bit; DatasheetVersion: Rev. E; PackageVersion: C04-056C, 12/2012; PackageReference: SOIC-SM8; PackageDescription: 8-Lead Plastic Small Outline, 5.26 x 5.25 mm Body, 1.27 mm Pitch; Supplier 1: Digi-Key; Supplier Part Number 1: PIC12C509AT-04ESM-ND; Supplier 2: Mouser; Supplier Part Number 2: 579-12C509AT-04E/SM; RoHS: TRUE; Mounting Technology: Surface Mount; ComponentLink1Description: Datasheet; ComponentLink1URL: http://ww1.microchip.com/downloads/en/DeviceDoc/40139e.pdf; ComponentLink2Description: Package Specification; ComponentLink2URL: http://www.microchip.com/stellent/groups/techpub_sg/documents/packagingspec/en012702.pdf; ComponentLink3Description: URL Link1; ComponentLink3URL: Product URL:http://www.microchip.com/datasheet/PIC12C509A
footprint MCHP-SOIC-SM8_N (SOIC, 8-Leads, Body 5.26x5.25mm, Pitch 1.27mm, IPC Medium Density)
footprint MCHP-SOIC-SM8_L (SOIC, 8-Leads, Body 5.26x5.25mm, Pitch 1.27mm, IPC High Density)
footprint MCHP-SOIC-SM8_M (SOIC, 8-Leads, Body 5.26x5.25mm, Pitch 1.27mm, IPC Low Density)
pins: 1 VDD (power) "Positive supply for logic and I/O pins", 2 GP5/OSC1/CLKIN (io), 3 GP4/OSC2 (io), 4 GP3/~{MCLR}/VPP (in), 5 GP2/T0CKI (io), 6 GP1 (io) "Bi-directional I/O port/ serial programming clock. Can be software programmed for internal weak pull-up and wake-up from SLEEP on pin change. This buffer is a Schmitt Trigger input when used in serial programming mode.", 7 GP0 (io) "Bi-directional I/O port/ serial programming data. Can be software programmed for internal weak pull-up and wake-up from SLEEP on pin change. This buffer is a Schmitt Trigger input when used in serial programming mode.", 8 VSS (power) "Ground reference for logic and I/O pins"

## PIC12C509AT-04E/SN
designator U?
8-Bit CMOS Microcontroller, 4 MHz, 5 I/O, -40 to 125 degC, 8-pin SOIC (SN8), Tape and Reel; Manufacturer: Microchip; PartNumber: PIC12C509AT-04E/SN; Digital Communication: 0 -UART, 0 -A/E/USART, 0 -SPI, 0 -I2C; I/O Pins: 5; Max. CPU Speed MHz: 4; Memory Type: OTP; Operation Voltage Range: 3V - 5.5V; Packing: T/R; Program Memory KBytes: 1.5; Program Memory KWords: 1; RAM: 41; Timers: 1 - 8-bit, 0 - 16-bit; DatasheetVersion: Rev. E; PackageVersion: C04-057C, 12/2012; PackageReference: SOIC-SN8; PackageDescription: 8-Lead Plastic Small Outline, 4.9 x 3.9 mm Body, 1.27 mm Pitch; Supplier 1: Digi-Key; Supplier Part Number 1: PIC12C509AT-04ESN-ND; Supplier 2: Mouser; Supplier Part Number 2: 579-12C509AT-04E/SN; RoHS: TRUE; Mounting Technology: Surface Mount; ComponentLink1Description: Datasheet; ComponentLink1URL: http://ww1.microchip.com/downloads/en/DeviceDoc/40139e.pdf; ComponentLink2Description: Package Specification; ComponentLink2URL: http://www.microchip.com/stellent/groups/techpub_sg/documents/packagingspec/en012702.pdf; ComponentLink3Description: URL Link1; ComponentLink3URL: Product URL:http://www.microchip.com/datasheet/PIC12C509A
footprint MCHP-SOIC-SN8_N (SOIC, 8-Leads, Body 4.9x3.9mm, Pitch 1.27mm, IPC Medium Density)
footprint MCHP-SOIC-SN8_L (SOIC, 8-Leads, Body 4.9x3.9mm, Pitch 1.27mm, IPC High Density)
footprint MCHP-SOIC-SN8_M (SOIC, 8-Leads, Body 4.9x3.9mm, Pitch 1.27mm, IPC Low Density)
pins: 1 VDD (power) "Positive supply for logic and I/O pins", 2 GP5/OSC1/CLKIN (io), 3 GP4/OSC2 (io), 4 GP3/~{MCLR}/VPP (in), 5 GP2/T0CKI (io), 6 GP1 (io) "Bi-directional I/O port/ serial programming clock. Can be software programmed for internal weak pull-up and wake-up from SLEEP on pin change. This buffer is a Schmitt Trigger input when used in serial programming mode.", 7 GP0 (io) "Bi-directional I/O port/ serial programming data. Can be software programmed for internal weak pull-up and wake-up from SLEEP on pin change. This buffer is a Schmitt Trigger input when used in serial programming mode.", 8 VSS (power) "Ground reference for logic and I/O pins"

## PIC12C509AT-04I/SM
designator U?
8-Bit CMOS Microcontroller, 4 MHz, 5 I/O, -40 to 85 degC, 8-pin SOIC (SM8), Tape and Reel; Manufacturer: Microchip; PartNumber: PIC12C509AT-04I/SM; Digital Communication: 0 -UART, 0 -A/E/USART, 0 -SPI, 0 -I2C; I/O Pins: 5; Max. CPU Speed MHz: 4; Memory Type: OTP; Operation Voltage Range: 3V - 5.5V; Packing: T/R; Program Memory KBytes: 1.5; Program Memory KWords: 1; RAM: 41; Timers: 1 - 8-bit, 0 - 16-bit; DatasheetVersion: Rev. E; PackageVersion: C04-056C, 12/2012; PackageReference: SOIC-SM8; PackageDescription: 8-Lead Plastic Small Outline, 5.26 x 5.25 mm Body, 1.27 mm Pitch; Supplier 1: Digi-Key; Supplier Part Number 1: PIC12C509AT-04ISM-ND; Supplier 2: Mouser; Supplier Part Number 2: 579-12C509AT-04I/SM; RoHS: TRUE; Mounting Technology: Surface Mount; ComponentLink1Description: Datasheet; ComponentLink1URL: http://ww1.microchip.com/downloads/en/DeviceDoc/40139e.pdf; ComponentLink2Description: Package Specification; ComponentLink2URL: http://www.microchip.com/stellent/groups/techpub_sg/documents/packagingspec/en012702.pdf; ComponentLink3Description: URL Link1; ComponentLink3URL: Product URL:http://www.microchip.com/datasheet/PIC12C509A
footprint MCHP-SOIC-SM8_N (SOIC, 8-Leads, Body 5.26x5.25mm, Pitch 1.27mm, IPC Medium Density)
footprint MCHP-SOIC-SM8_L (SOIC, 8-Leads, Body 5.26x5.25mm, Pitch 1.27mm, IPC High Density)
footprint MCHP-SOIC-SM8_M (SOIC, 8-Leads, Body 5.26x5.25mm, Pitch 1.27mm, IPC Low Density)
pins: 1 VDD (power) "Positive supply for logic and I/O pins", 2 GP5/OSC1/CLKIN (io), 3 GP4/OSC2 (io), 4 GP3/~{MCLR}/VPP (in), 5 GP2/T0CKI (io), 6 GP1 (io) "Bi-directional I/O port/ serial programming clock. Can be software programmed for internal weak pull-up and wake-up from SLEEP on pin change. This buffer is a Schmitt Trigger input when used in serial programming mode.", 7 GP0 (io) "Bi-directional I/O port/ serial programming data. Can be software programmed for internal weak pull-up and wake-up from SLEEP on pin change. This buffer is a Schmitt Trigger input when used in serial programming mode.", 8 VSS (power) "Ground reference for logic and I/O pins"

## PIC12C509AT-04I/SN
designator U?
8-Bit CMOS Microcontroller, 4 MHz, 5 I/O, -40 to 85 degC, 8-pin SOIC (SN8), Tape and Reel; Manufacturer: Microchip; PartNumber: PIC12C509AT-04I/SN; Digital Communication: 0 -UART, 0 -A/E/USART, 0 -SPI, 0 -I2C; I/O Pins: 5; Max. CPU Speed MHz: 4; Memory Type: OTP; Operation Voltage Range: 3V - 5.5V; Packing: T/R; Program Memory KBytes: 1.5; Program Memory KWords: 1; RAM: 41; Timers: 1 - 8-bit, 0 - 16-bit; DatasheetVersion: Rev. E; PackageVersion: C04-057C, 12/2012; PackageReference: SOIC-SN8; PackageDescription: 8-Lead Plastic Small Outline, 4.9 x 3.9 mm Body, 1.27 mm Pitch; Supplier 1: Digi-Key; Supplier Part Number 1: PIC12C509AT-04ISN-ND; Supplier 2: Mouser; Supplier Part Number 2: 579-12C509AT-04I/SN; RoHS: TRUE; Mounting Technology: Surface Mount; ComponentLink1Description: Datasheet; ComponentLink1URL: http://ww1.microchip.com/downloads/en/DeviceDoc/40139e.pdf; ComponentLink2Description: Package Specification; ComponentLink2URL: http://www.microchip.com/stellent/groups/techpub_sg/documents/packagingspec/en012702.pdf; ComponentLink3Description: URL Link1; ComponentLink3URL: Product URL:http://www.microchip.com/datasheet/PIC12C509A
footprint MCHP-SOIC-SN8_N (SOIC, 8-Leads, Body 4.9x3.9mm, Pitch 1.27mm, IPC Medium Density)
footprint MCHP-SOIC-SN8_L (SOIC, 8-Leads, Body 4.9x3.9mm, Pitch 1.27mm, IPC High Density)
footprint MCHP-SOIC-SN8_M (SOIC, 8-Leads, Body 4.9x3.9mm, Pitch 1.27mm, IPC Low Density)
pins: 1 VDD (power) "Positive supply for logic and I/O pins", 2 GP5/OSC1/CLKIN (io), 3 GP4/OSC2 (io), 4 GP3/~{MCLR}/VPP (in), 5 GP2/T0CKI (io), 6 GP1 (io) "Bi-directional I/O port/ serial programming clock. Can be software programmed for internal weak pull-up and wake-up from SLEEP on pin change. This buffer is a Schmitt Trigger input when used in serial programming mode.", 7 GP0 (io) "Bi-directional I/O port/ serial programming data. Can be software programmed for internal weak pull-up and wake-up from SLEEP on pin change. This buffer is a Schmitt Trigger input when used in serial programming mode.", 8 VSS (power) "Ground reference for logic and I/O pins"

## PIC12C509T-04I/SM
designator U?
8-Bit CMOS Microcontroller, 4 MHz, 5 I/O, -40 to 85 degC, 8-pin SOIC (SM8), Tape and Reel; Manufacturer: Microchip; PartNumber: PIC12C509T-04I/SM; Digital Communication: 0 -UART, 0 -A/E/USART, 0 -SPI, 0 -I2C; I/O Pins: 5; Max. CPU Speed MHz: 4; Memory Type: OTP; Operation Voltage Range: 2.5V - 5.5V; Packing: T/R; Program Memory KBytes: 1.5; Program Memory KWords: 1; RAM: 41; Timers: 1 - 8-bit, 0 - 16-bit; DatasheetVersion: Rev. E; PackageVersion: C04-056C, 12/2012; PackageReference: SOIC-SM8; PackageDescription: 8-Lead Plastic Small Outline, 5.26 x 5.25 mm Body, 1.27 mm Pitch; Supplier 1: Digi-Key; Supplier Part Number 1: PIC12C509T-04I/SM-ND; Supplier 2: Mouser; Supplier Part Number 2: 579-12C509T-04I/SM; RoHS: TRUE; Mounting Technology: Surface Mount; ComponentLink1Description: Datasheet; ComponentLink1URL: http://ww1.microchip.com/downloads/en/DeviceDoc/40139e.pdf; ComponentLink2Description: Package Specification; ComponentLink2URL: http://www.microchip.com/stellent/groups/techpub_sg/documents/packagingspec/en012702.pdf; ComponentLink3Description: URL Link1; ComponentLink3URL: Product URL:http://www.microchip.com/datasheet/PIC12C509
footprint MCHP-SOIC-SM8_N (SOIC, 8-Leads, Body 5.26x5.25mm, Pitch 1.27mm, IPC Medium Density)
footprint MCHP-SOIC-SM8_L (SOIC, 8-Leads, Body 5.26x5.25mm, Pitch 1.27mm, IPC High Density)
footprint MCHP-SOIC-SM8_M (SOIC, 8-Leads, Body 5.26x5.25mm, Pitch 1.27mm, IPC Low Density)
pins: 1 VDD (power) "Positive supply for logic and I/O pins", 2 GP5/OSC1/CLKIN (io), 3 GP4/OSC2 (io), 4 GP3/~{MCLR}/VPP (in), 5 GP2/T0CKI (io), 6 GP1 (io) "Bi-directional I/O port/ serial programming clock. Can be software programmed for internal weak pull-up and wake-up from SLEEP on pin change. This buffer is a Schmitt Trigger input when used in serial programming mode.", 7 GP0 (io) "Bi-directional I/O port/ serial programming data. Can be software programmed for internal weak pull-up and wake-up from SLEEP on pin change. This buffer is a Schmitt Trigger input when used in serial programming mode.", 8 VSS (power) "Ground reference for logic and I/O pins"

## PIC12C671-04/P
designator U?
8-Bit CMOS Microcontroller with A/D Converter and EEPROM Data Memory, 4 MHz, 5 I/O, 0 to 70 degC, 8-pin PDIP (P8), Tube; Manufacturer: Microchip; PartNumber: PIC12C671-04/P; # of A/D Channels: 4; Digital Communication: 0 -UART, 0 -A/E/USART, 0 -SPI, 0 -I2C; I/O Pins: 5; Internal Oscillator: 4 MHz; Memory Type: OTP; Operation Voltage Range: 3V - 5.5V; Program Memory KBytes: 1.75; Program Memory KWords: 1; RAM: 128; Timers: 1 - 8-bit; DatasheetVersion: Rev. C; PackageVersion: C04-018B, 12/2012; PackageReference: PDIP-P8; PackageDescription: 8-Lead Plastic Dual In-Line, Row Spacing 7.62 mm, 9.5 x 6.6 mm Body, 2.54 mm Pitch; Supplier 1: Digi-Key; Supplier Part Number 1: PIC12C671-04/P-ND; Supplier 2: Farnell; Supplier Part Number 2: 9758860; Supplier 3: Newark; Supplier Part Number 3: 97K7152; Supplier 4: Newark; Supplier Part Number 4: 61K3432; Supplier 5: Mouser; Supplier Part Number 5: 579-PIC12C67104P; Max. CPU Speed MHz: 4; Packing: TUBE; RoHS: TRUE; Mounting Technology: Through Hole; ComponentLink1Description: Datasheet; ComponentLink1URL: http://ww1.microchip.com/downloads/en/DeviceDoc/30561C.pdf; ComponentLink2Description: Package Specification; ComponentLink2URL: http://www.microchip.com/stellent/groups/techpub_sg/documents/packagingspec/en012702.pdf; ComponentLink3Description: URL Link1; ComponentLink3URL: Product URL:http://www.microchip.com/datasheet/PIC12C671
footprint MCHP-PDIP-P8 (PDIP, 8-Leads, Body 9.5x6.604mm, Pitch 2.54mm)
pins: 1 VDD (power) "Positive supply for logic and I/O pins.", 2 GP5/OSC1/CLKIN (io), 3 GP4/OSC2/AN3/CLKOUT (io), 4 GP3/~{MCLR}/VPP (in), 5 GP2/T0CKI/AN2/INT (io), 6 GP1/AN1/VREF (io), 7 GP0/AN0 (io), 8 VSS (power) "Ground reference for logic and I/O pins."